# EAGLE library part CS4333 (library cirrus)
CS4333 Stereo D/A converter for digital audio
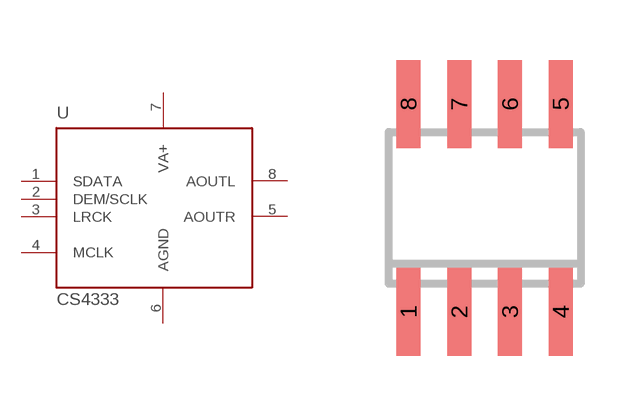
[diagram p1: symbol with the pads of SO08; footprint SO08]

Designator prefix U

## CS4333  [SO08]
1  SDATA  in
2  DEM/SCLK  in
3  LRCK  in
4  MCLK  in
5  AOUTR  out
6  AGND  in
7  VA+  in
8  AOUTL  out

## Footprint SO08 (pad centres in mm)
smd 0.6 x 2.2: 1 -1.905,-2.6; 2 -0.635,-2.6; 3 0.635,-2.6; 4 1.905,-2.6; 5 1.905,2.6; 6 0.635,2.6; 7 -0.635,2.6; 8 -1.905,2.6